# Altium footprint library DIP762W47P254L986H340Q8N.PcbLib: 1 footprints
Each footprint in its own frame and in the unit in brackets; x right, y up, seen from the top. Pads: shape width x height; smd on the part's side, far side on the other; paste and mask are expansions set on the pad; w line width, h text height; cw(c..) or ccw(c..) is an arc to the next point about the centre after c.
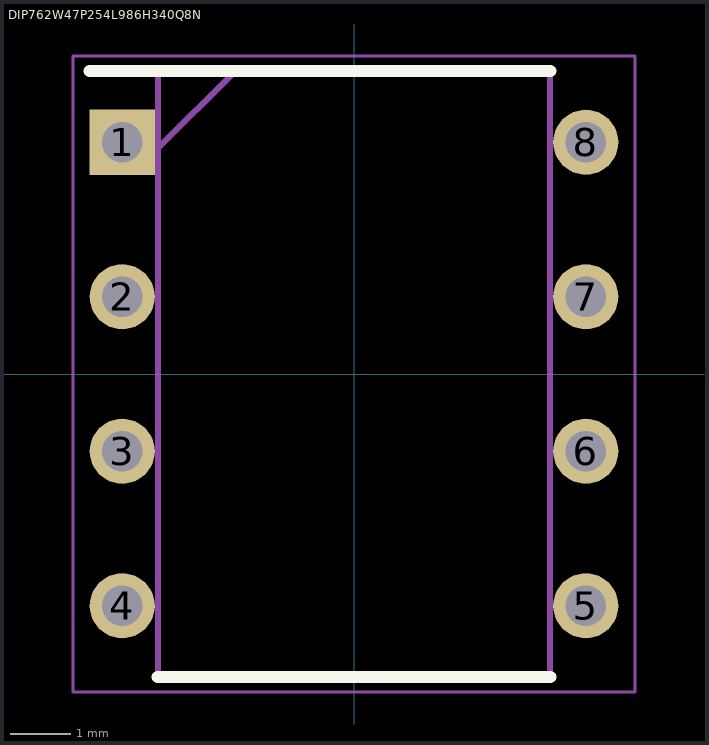
[diagram p0: the footprint, top view; thin cyan lines are the x and y axes]

## DIP762W47P254L986H340Q8N [mm]
pads (8):
  rect 1.07x1.07 / inner round 1.07 / far side rect 1.07x1.07 hole 0.67: 1(-3.81,3.81)
  round 1.07 hole 0.67: 2(-3.81,1.27) 3(-3.81,-1.27) 4(-3.81,-3.81) 5(3.81,-3.81) 6(3.81,-1.27) 7(3.81,1.27) 8(3.81,3.81)
Top Overlay:
  lines w0.2: -4.345,4.98 3.225,4.98 ; -3.225,-4.98 3.225,-4.98
Mechanical 15:
  lines w0.1: -3.225,3.71 -1.955,4.98 ; -3.225,-4.98 3.225,-4.98 3.225,4.98 -3.225,4.98 -3.225,-4.98
Mechanical 20:
  lines w0.05: -4.62,-5.23 4.62,-5.23 4.62,5.23 -4.62,5.23 -4.62,-5.23